# Altium footprint library Connector_Molex.PcbLib: 815 footprints (part 15 of 51)
Each footprint in its own frame and in the unit in brackets; x right, y up, seen from the top. Pads: shape width x height; smd on the part's side, far side on the other; paste and mask are expansions set on the pad; w line width, h text height; cw(c..) or ccw(c..) is an arc to the next point about the centre after c.
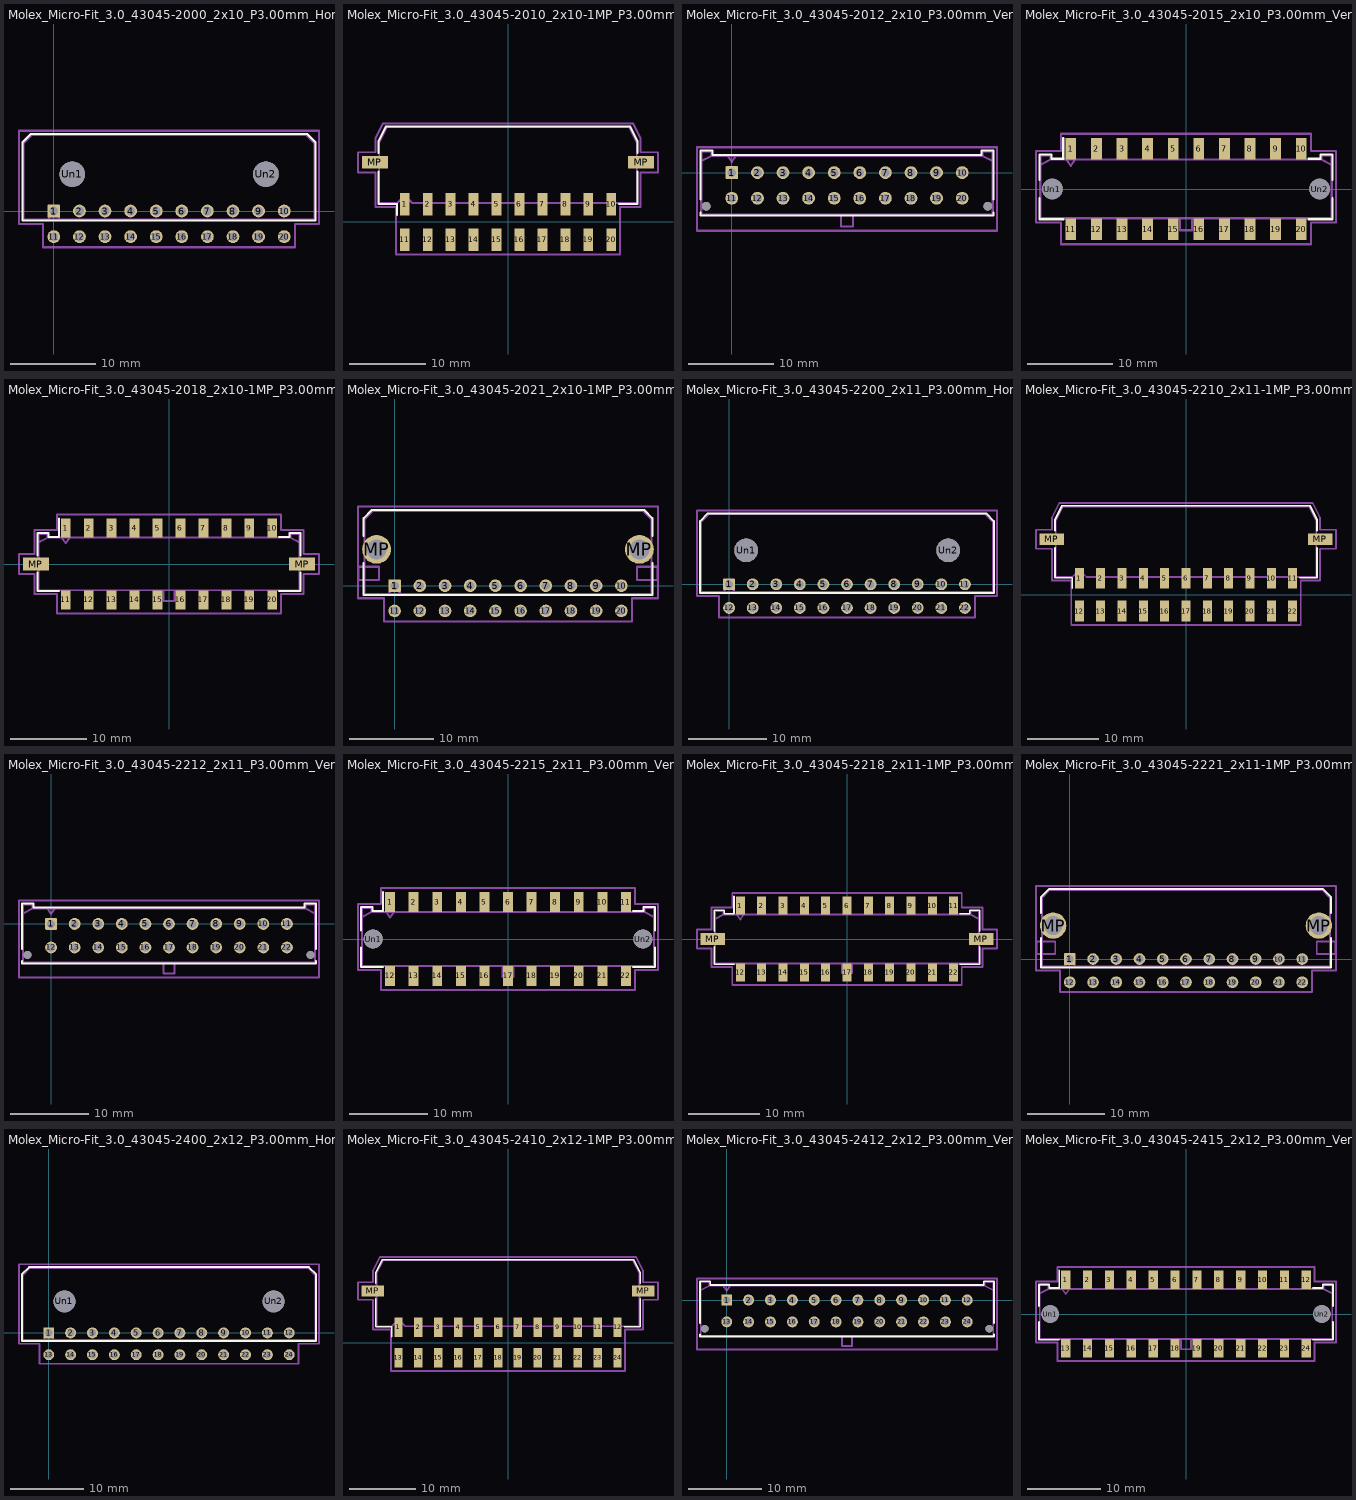
[diagram p14: the footprints below, top view; thin cyan lines are the x and y axes]

## Molex_Micro-Fit_3.0_43045-2000_2x10_P3.00mm_Horizontal [mm]
pads (22):
  rrect17% 1.5x1.5 hole 1.02: 1(0,0)
  round 1.5 hole 1.02: 2(3,0) 3(6,0) 4(9,0) 5(12,0) 6(15,0) 7(18,0) 8(21,0) 9(24,0) 10(27,0) 11(0,-3) 12(3,-3) 13(6,-3) 14(9,-3) 15(12,-3) 16(15,-3) 17(18,-3) 18(21,-3) 19(24,-3) 20(27,-3)
  round 3 hole 3: Un1(2.16,4.32) Un2(24.86,4.32)
F.SilkS:
  lines w0.254: -3.685,-1.1 30.685,-1.1 30.685,8.03 29.685,9.03 -2.685,9.03 -3.685,8.03 -3.685,-1.1
Top Assembly:
  lines w0.254: -0.75,-0.99 0,0 0.75,-0.99 ; -3.575,-0.99 30.575,-0.99 30.575,7.92 29.575,8.92 -2.575,8.92 -3.575,7.92 -3.575,-0.99
  text "'.Designator'" at 9.453,7.38 h1
Top Courtyard:
  lines w0.254: -4.08,-1.5 -1.25,-1.5 -1.25,-4.25 28.25,-4.25 28.25,-1.5 31.08,-1.5 31.08,9.42 -4.08,9.42 -4.08,-1.5
Top Designator:
  text ".Designator" at 5.882,2.077 h1.52

## Molex_Micro-Fit_3.0_43045-2010_2x10-1MP_P3.00mm_Horizontal [mm]
pads (22):
  rect 1.27x2.92 smd: 1(-13.5,2.315) 2(-10.5,2.315) 3(-7.5,2.315) 4(-4.5,2.315) 5(-1.5,2.315) 6(1.5,2.315) 7(4.5,2.315) 8(7.5,2.315) 9(10.5,2.315) 10(13.5,2.315) 11(-13.5,-2.315) 12(-10.5,-2.315) 13(-7.5,-2.315) 14(-4.5,-2.315) 15(-1.5,-2.315) 16(1.5,-2.315) 17(4.5,-2.315) 18(7.5,-2.315) 19(10.5,-2.315) 20(13.5,-2.315)
  rect 3.43x1.65 smd: MP(-17.385,7.785) MP(17.385,7.785)
F.SilkS:
  lines w0.254: -16.935,6.59 -16.935,2.365 -14.505,2.365 -14.505,0.905 ; -16.935,8.98 -16.935,10.495 -15.935,12.495 0,12.495 15.935,12.495 16.935,10.495 16.935,8.98 ; 14.505,2.365 16.935,2.365 16.935,6.59
Top Assembly:
  lines w0.254: -16.825,2.475 -14.5,2.475 -13.5,3.475 -12.5,2.475 0,2.475 14.135,2.475 16.825,2.475 16.825,8.61 16.825,10.385 15.825,12.385 0,12.385 -15.825,12.385 -16.825,10.385 -16.825,8.61 -16.825,2.475
  text "'.Designator'" at -4.047,10.84 h1
Top Courtyard:
  lines w0.254: -19.6,6.46 -17.33,6.46 -17.33,1.98 -14.64,1.98 -14.64,-4.28 0,-4.28 14.64,-4.28 14.64,1.98 17.33,1.98 17.33,6.46 19.6,6.46 19.6,9.11 17.33,9.11 17.33,10.89 16.33,12.89 0,12.89 -16.33,12.89 -17.33,10.89 -17.33,9.11 -19.6,9.11 -19.6,6.46
Top Designator:
  text ".Designator" at -7.618,3.797 h1.52

## Molex_Micro-Fit_3.0_43045-2012_2x10_P3.00mm_Vertical [mm]
pads (22):
  rrect17% 1.5x1.5 hole 1.02: 1(0,0)
  round 1.5 hole 1.02: 2(3,0) 3(6,0) 4(9,0) 5(12,0) 6(15,0) 7(18,0) 8(21,0) 9(24,0) 10(27,0) 11(0,-3) 12(3,-3) 13(6,-3) 14(9,-3) 15(12,-3) 16(15,-3) 17(18,-3) 18(21,-3) 19(24,-3) 20(27,-3)
  round 1.02 hole 1.02: Un1(-3,-3.94) Un2(30,-3.94)
F.SilkS:
  lines w0.254: -3.685,-4.71 -3.685,-5.01 30.685,-5.01 30.685,-4.71 ; -3.685,-3.17 -3.685,2.58 -2.265,2.58 -2.265,2.08 29.265,2.08 29.265,2.58 30.685,2.58 30.685,-3.17
Top Assembly:
  lines w0.254: -3.575,1.34 -2.375,1.97 ; -0.5,1.97 0,1.263 0.5,1.97 ; 12.8,-4.9 12.8,-6.3 14.2,-6.3 14.2,-4.9 ; 30.575,1.34 29.375,1.97 ; -2.375,1.97 29.375,1.97 ; -2.375,1.97 -2.375,2.47 -3.575,2.47 -3.575,-4.9 30.575,-4.9 30.575,2.47 29.375,2.47 29.375,1.97
  text "'.Designator'" at 9.453,-5.04 h1
Top Courtyard:
  lines w0.254: -4.08,-6.81 31.08,-6.81 31.08,2.97 -4.08,2.97 -4.08,-6.81
Top Designator:
  text ".Designator" at 5.882,-2.428 h1.52

## Molex_Micro-Fit_3.0_43045-2015_2x10_P3.00mm_Vertical [mm]
pads (22):
  rect 1.27x2.54 smd: 1(-13.5,4.7) 2(-10.5,4.7) 3(-7.5,4.7) 4(-4.5,4.7) 5(-1.5,4.7) 6(1.5,4.7) 7(4.5,4.7) 8(7.5,4.7) 9(10.5,4.7) 10(13.5,4.7) 11(-13.5,-4.7) 12(-10.5,-4.7) 13(-7.5,-4.7) 14(-4.5,-4.7) 15(-1.5,-4.7) 16(1.5,-4.7) 17(4.5,-4.7) 18(7.5,-4.7) 19(10.5,-4.7) 20(13.5,-4.7)
  round 2.41 hole 2.41: Un1(-15.65,0) Un2(15.65,0)
F.SilkS:
  lines w0.254: -17.185,-1.085 -17.185,-3.54 -14.395,-3.54 ; -17.185,1.085 -17.185,4.05 -15.765,4.05 -15.765,3.55 -14.395,3.55 -14.395,5.97 ; 14.395,-3.54 17.185,-3.54 17.185,-1.085 ; 14.395,3.55 15.765,3.55 15.765,4.05 17.185,4.05 17.185,1.085
Top Assembly:
  lines w0.254: -17.075,2.81 -15.875,3.44 ; -14,3.44 -13.5,2.733 -13,3.44 ; -0.7,-3.43 -0.7,-4.83 0.7,-4.83 0.7,-3.43 ; 17.075,2.81 15.875,3.44 ; -15.875,3.44 15.875,3.44 ; -15.875,3.44 -15.875,3.94 -17.075,3.94 -17.075,-3.43 17.075,-3.43 17.075,3.94 15.875,3.94 15.875,3.44
  text "'.Designator'" at -4.047,-3.57 h1
Top Courtyard:
  lines w0.254: -17.58,-3.93 -14.64,-3.93 -14.64,-6.47 0,-6.47 14.64,-6.47 14.64,-3.93 17.58,-3.93 17.58,4.44 14.64,4.44 14.64,6.47 0,6.47 -14.64,6.47 -14.64,4.44 -17.58,4.44 -17.58,-3.93
Top Designator:
  text ".Designator" at -7.618,-0.508 h1.52

## Molex_Micro-Fit_3.0_43045-2018_2x10-1MP_P3.00mm_Vertical [mm]
pads (22):
  rect 1.27x2.54 smd: 1(-13.5,4.7) 2(-10.5,4.7) 3(-7.5,4.7) 4(-4.5,4.7) 5(-1.5,4.7) 6(1.5,4.7) 7(4.5,4.7) 8(7.5,4.7) 9(10.5,4.7) 10(13.5,4.7) 11(-13.5,-4.7) 12(-10.5,-4.7) 13(-7.5,-4.7) 14(-4.5,-4.7) 15(-1.5,-4.7) 16(1.5,-4.7) 17(4.5,-4.7) 18(7.5,-4.7) 19(10.5,-4.7) 20(13.5,-4.7)
  rect 3.43x1.65 smd: MP(-17.385,0) MP(17.385,0)
F.SilkS:
  lines w0.254: -17.185,-1.085 -17.185,-3.54 -14.395,-3.54 ; -17.185,1.085 -17.185,4.05 -15.765,4.05 -15.765,3.55 -14.395,3.55 -14.395,5.97 ; 14.395,-3.54 17.185,-3.54 17.185,-1.085 ; 14.395,3.55 15.765,3.55 15.765,4.05 17.185,4.05 17.185,1.085
Top Assembly:
  lines w0.254: -17.075,2.81 -15.875,3.44 ; -14,3.44 -13.5,2.733 -13,3.44 ; -0.7,-3.43 -0.7,-4.83 0.7,-4.83 0.7,-3.43 ; 17.075,2.81 15.875,3.44 ; -15.875,3.44 15.875,3.44 ; -15.875,3.44 -15.875,3.94 -17.075,3.94 -17.075,-3.43 17.075,-3.43 17.075,3.94 15.875,3.94 15.875,3.44
  text "'.Designator'" at -4.047,-3.57 h1
Top Courtyard:
  lines w0.254: -19.6,-1.33 -17.58,-1.33 -17.58,-3.93 -14.64,-3.93 -14.64,-6.47 0,-6.47 14.64,-6.47 14.64,-3.93 17.58,-3.93 17.58,-1.33 19.6,-1.33 19.6,1.33 17.58,1.33 17.58,4.44 14.64,4.44 14.64,6.47 0,6.47 -14.64,6.47 -14.64,4.44 -17.58,4.44 -17.58,1.33 -19.6,1.33 -19.6,-1.33
Top Designator:
  text ".Designator" at -7.618,-0.508 h1.52

## Molex_Micro-Fit_3.0_43045-2021_2x10-1MP_P3.00mm_Horizontal [mm]
pads (22):
  rrect17% 1.5x1.5 hole 1.02: 1(0,0)
  round 1.5 hole 1.02: 2(3,0) 3(6,0) 4(9,0) 5(12,0) 6(15,0) 7(18,0) 8(21,0) 9(24,0) 10(27,0) 11(0,-3) 12(3,-3) 13(6,-3) 14(9,-3) 15(12,-3) 16(15,-3) 17(18,-3) 18(21,-3) 19(24,-3) 20(27,-3)
  round 3.41 hole 2.41: MP(-2.15,4.32) MP(29.15,4.32)
F.SilkS:
  lines w0.254: -3.685,2.725 -3.685,-1.1 30.685,-1.1 30.685,2.725 ; -3.685,5.915 -3.685,8.03 -2.685,9.03 29.685,9.03 30.685,8.03 30.685,5.915
Top Assembly:
  lines w0.254: -0.75,-0.99 0,0 0.75,-0.99 ; -3.575,-0.99 30.575,-0.99 30.575,7.92 29.575,8.92 -2.575,8.92 -3.575,7.92 -3.575,-0.99
  text "'.Designator'" at 9.453,7.38 h1
Top Courtyard:
  lines w0.254: -4.36,-1.5 -1.25,-1.5 -1.25,-4.25 28.25,-4.25 28.25,-1.5 31.36,-1.5 31.36,9.42 -4.36,9.42 -4.36,-1.5
Top Designator:
  text ".Designator" at 5.882,2.077 h1.52
Dwgs.User:
  lines w0.254: -4.325,0.66 -1.875,0.66 -1.875,2.26 -4.325,2.26 -4.325,0.66 ; 28.875,0.66 31.325,0.66 31.325,2.26 28.875,2.26 28.875,0.66
Cmts.User:
  text "CU KEEPOUT" at 29,1.301 h0.25
  text "CU KEEPOUT" at -4.2,1.301 h0.25

## Molex_Micro-Fit_3.0_43045-2200_2x11_P3.00mm_Horizontal [mm]
pads (24):
  rrect17% 1.5x1.5 hole 1.02: 1(0,0)
  round 1.5 hole 1.02: 2(3,0) 3(6,0) 4(9,0) 5(12,0) 6(15,0) 7(18,0) 8(21,0) 9(24,0) 10(27,0) 11(30,0) 12(0,-3) 13(3,-3) 14(6,-3) 15(9,-3) 16(12,-3) 17(15,-3) 18(18,-3) 19(21,-3) 20(24,-3) 21(27,-3) 22(30,-3)
  round 3 hole 3: Un1(2.16,4.32) Un2(27.86,4.32)
F.SilkS:
  lines w0.254: -3.685,-1.1 33.685,-1.1 33.685,8.03 32.685,9.03 -2.685,9.03 -3.685,8.03 -3.685,-1.1
Top Assembly:
  lines w0.254: -0.75,-0.99 0,0 0.75,-0.99 ; -3.575,-0.99 33.575,-0.99 33.575,7.92 32.575,8.92 -2.575,8.92 -3.575,7.92 -3.575,-0.99
  text "'.Designator'" at 10.953,7.38 h1
Top Courtyard:
  lines w0.254: -4.08,-1.5 -1.25,-1.5 -1.25,-4.25 31.25,-4.25 31.25,-1.5 34.08,-1.5 34.08,9.42 -4.08,9.42 -4.08,-1.5
Top Designator:
  text ".Designator" at 7.382,2.077 h1.52

## Molex_Micro-Fit_3.0_43045-2210_2x11-1MP_P3.00mm_Horizontal [mm]
pads (24):
  rect 1.27x2.92 smd: 1(-15,2.315) 2(-12,2.315) 3(-9,2.315) 4(-6,2.315) 5(-3,2.315) 6(0,2.315) 7(3,2.315) 8(6,2.315) 9(9,2.315) 10(12,2.315) 11(15,2.315) 12(-15,-2.315) 13(-12,-2.315) 14(-9,-2.315) 15(-6,-2.315) 16(-3,-2.315) 17(0,-2.315) 18(3,-2.315) 19(6,-2.315) 20(9,-2.315) 21(12,-2.315) 22(15,-2.315)
  rect 3.43x1.65 smd: MP(-18.885,7.785) MP(18.885,7.785)
F.SilkS:
  lines w0.254: -18.435,6.59 -18.435,2.365 -16.005,2.365 -16.005,0.905 ; -18.435,8.98 -18.435,10.495 -17.435,12.495 0,12.495 17.435,12.495 18.435,10.495 18.435,8.98 ; 16.005,2.365 18.435,2.365 18.435,6.59
Top Assembly:
  lines w0.254: -18.325,2.475 -16,2.475 -15,3.475 -14,2.475 0,2.475 15.635,2.475 18.325,2.475 18.325,8.61 18.325,10.385 17.325,12.385 0,12.385 -17.325,12.385 -18.325,10.385 -18.325,8.61 -18.325,2.475
  text "'.Designator'" at -4.047,10.84 h1
Top Courtyard:
  lines w0.254: -21.1,6.46 -18.83,6.46 -18.83,1.98 -16.14,1.98 -16.14,-4.28 0,-4.28 16.14,-4.28 16.14,1.98 18.83,1.98 18.83,6.46 21.1,6.46 21.1,9.11 18.83,9.11 18.83,10.89 17.83,12.89 0,12.89 -17.83,12.89 -18.83,10.89 -18.83,9.11 -21.1,9.11 -21.1,6.46
Top Designator:
  text ".Designator" at -7.618,3.797 h1.52

## Molex_Micro-Fit_3.0_43045-2212_2x11_P3.00mm_Vertical [mm]
pads (24):
  rrect17% 1.5x1.5 hole 1.02: 1(0,0)
  round 1.5 hole 1.02: 2(3,0) 3(6,0) 4(9,0) 5(12,0) 6(15,0) 7(18,0) 8(21,0) 9(24,0) 10(27,0) 11(30,0) 12(0,-3) 13(3,-3) 14(6,-3) 15(9,-3) 16(12,-3) 17(15,-3) 18(18,-3) 19(21,-3) 20(24,-3) 21(27,-3) 22(30,-3)
  round 1.02 hole 1.02: Un1(-3,-3.94) Un2(33,-3.94)
F.SilkS:
  lines w0.254: -3.685,-4.71 -3.685,-5.01 33.685,-5.01 33.685,-4.71 ; -3.685,-3.17 -3.685,2.58 -2.265,2.58 -2.265,2.08 32.265,2.08 32.265,2.58 33.685,2.58 33.685,-3.17
Top Assembly:
  lines w0.254: -3.575,1.34 -2.375,1.97 ; -0.5,1.97 0,1.263 0.5,1.97 ; 14.3,-4.9 14.3,-6.3 15.7,-6.3 15.7,-4.9 ; 33.575,1.34 32.375,1.97 ; -2.375,1.97 32.375,1.97 ; -2.375,1.97 -2.375,2.47 -3.575,2.47 -3.575,-4.9 33.575,-4.9 33.575,2.47 32.375,2.47 32.375,1.97
  text "'.Designator'" at 10.953,-5.04 h1
Top Courtyard:
  lines w0.254: -4.08,-6.81 34.08,-6.81 34.08,2.97 -4.08,2.97 -4.08,-6.81
Top Designator:
  text ".Designator" at 7.382,-2.428 h1.52

## Molex_Micro-Fit_3.0_43045-2215_2x11_P3.00mm_Vertical [mm]
pads (24):
  rect 1.27x2.54 smd: 1(-15,4.7) 2(-12,4.7) 3(-9,4.7) 4(-6,4.7) 5(-3,4.7) 6(0,4.7) 7(3,4.7) 8(6,4.7) 9(9,4.7) 10(12,4.7) 11(15,4.7) 12(-15,-4.7) 13(-12,-4.7) 14(-9,-4.7) 15(-6,-4.7) 16(-3,-4.7) 17(0,-4.7) 18(3,-4.7) 19(6,-4.7) 20(9,-4.7) 21(12,-4.7) 22(15,-4.7)
  round 2.41 hole 2.41: Un1(-17.15,0) Un2(17.15,0)
F.SilkS:
  lines w0.254: -18.685,-1.085 -18.685,-3.54 -15.895,-3.54 ; -18.685,1.085 -18.685,4.05 -17.265,4.05 -17.265,3.55 -15.895,3.55 -15.895,5.97 ; 15.895,-3.54 18.685,-3.54 18.685,-1.085 ; 15.895,3.55 17.265,3.55 17.265,4.05 18.685,4.05 18.685,1.085
Top Assembly:
  lines w0.254: -18.575,2.81 -17.375,3.44 ; -15.5,3.44 -15,2.733 -14.5,3.44 ; -0.7,-3.43 -0.7,-4.83 0.7,-4.83 0.7,-3.43 ; 18.575,2.81 17.375,3.44 ; -17.375,3.44 17.375,3.44 ; -17.375,3.44 -17.375,3.94 -18.575,3.94 -18.575,-3.43 18.575,-3.43 18.575,3.94 17.375,3.94 17.375,3.44
  text "'.Designator'" at -4.047,-3.57 h1
Top Courtyard:
  lines w0.254: -19.08,-3.93 -16.14,-3.93 -16.14,-6.47 0,-6.47 16.14,-6.47 16.14,-3.93 19.08,-3.93 19.08,4.44 16.14,4.44 16.14,6.47 0,6.47 -16.14,6.47 -16.14,4.44 -19.08,4.44 -19.08,-3.93
Top Designator:
  text ".Designator" at -7.618,-0.508 h1.52

## Molex_Micro-Fit_3.0_43045-2218_2x11-1MP_P3.00mm_Vertical [mm]
pads (24):
  rect 1.27x2.54 smd: 1(-15,4.7) 2(-12,4.7) 3(-9,4.7) 4(-6,4.7) 5(-3,4.7) 6(0,4.7) 7(3,4.7) 8(6,4.7) 9(9,4.7) 10(12,4.7) 11(15,4.7) 12(-15,-4.7) 13(-12,-4.7) 14(-9,-4.7) 15(-6,-4.7) 16(-3,-4.7) 17(0,-4.7) 18(3,-4.7) 19(6,-4.7) 20(9,-4.7) 21(12,-4.7) 22(15,-4.7)
  rect 3.43x1.65 smd: MP(-18.885,0) MP(18.885,0)
F.SilkS:
  lines w0.254: -18.685,-1.085 -18.685,-3.54 -15.895,-3.54 ; -18.685,1.085 -18.685,4.05 -17.265,4.05 -17.265,3.55 -15.895,3.55 -15.895,5.97 ; 15.895,-3.54 18.685,-3.54 18.685,-1.085 ; 15.895,3.55 17.265,3.55 17.265,4.05 18.685,4.05 18.685,1.085
Top Assembly:
  lines w0.254: -18.575,2.81 -17.375,3.44 ; -15.5,3.44 -15,2.733 -14.5,3.44 ; -0.7,-3.43 -0.7,-4.83 0.7,-4.83 0.7,-3.43 ; 18.575,2.81 17.375,3.44 ; -17.375,3.44 17.375,3.44 ; -17.375,3.44 -17.375,3.94 -18.575,3.94 -18.575,-3.43 18.575,-3.43 18.575,3.94 17.375,3.94 17.375,3.44
  text "'.Designator'" at -4.047,-3.57 h1
Top Courtyard:
  lines w0.254: -21.1,-1.33 -19.08,-1.33 -19.08,-3.93 -16.14,-3.93 -16.14,-6.47 0,-6.47 16.14,-6.47 16.14,-3.93 19.08,-3.93 19.08,-1.33 21.1,-1.33 21.1,1.33 19.08,1.33 19.08,4.44 16.14,4.44 16.14,6.47 0,6.47 -16.14,6.47 -16.14,4.44 -19.08,4.44 -19.08,1.33 -21.1,1.33 -21.1,-1.33
Top Designator:
  text ".Designator" at -7.618,-0.508 h1.52

## Molex_Micro-Fit_3.0_43045-2221_2x11-1MP_P3.00mm_Horizontal [mm]
pads (24):
  rrect17% 1.5x1.5 hole 1.02: 1(0,0)
  round 1.5 hole 1.02: 2(3,0) 3(6,0) 4(9,0) 5(12,0) 6(15,0) 7(18,0) 8(21,0) 9(24,0) 10(27,0) 11(30,0) 12(0,-3) 13(3,-3) 14(6,-3) 15(9,-3) 16(12,-3) 17(15,-3) 18(18,-3) 19(21,-3) 20(24,-3) 21(27,-3) 22(30,-3)
  round 3.41 hole 2.41: MP(-2.15,4.32) MP(32.15,4.32)
F.SilkS:
  lines w0.254: -3.685,2.725 -3.685,-1.1 33.685,-1.1 33.685,2.725 ; -3.685,5.915 -3.685,8.03 -2.685,9.03 32.685,9.03 33.685,8.03 33.685,5.915
Top Assembly:
  lines w0.254: -0.75,-0.99 0,0 0.75,-0.99 ; -3.575,-0.99 33.575,-0.99 33.575,7.92 32.575,8.92 -2.575,8.92 -3.575,7.92 -3.575,-0.99
  text "'.Designator'" at 10.953,7.38 h1
Top Courtyard:
  lines w0.254: -4.36,-1.5 -1.25,-1.5 -1.25,-4.25 31.25,-4.25 31.25,-1.5 34.36,-1.5 34.36,9.42 -4.36,9.42 -4.36,-1.5
Top Designator:
  text ".Designator" at 7.382,2.077 h1.52
Dwgs.User:
  lines w0.254: -4.325,0.66 -1.875,0.66 -1.875,2.26 -4.325,2.26 -4.325,0.66 ; 31.875,0.66 34.325,0.66 34.325,2.26 31.875,2.26 31.875,0.66
Cmts.User:
  text "CU KEEPOUT" at 32,1.301 h0.25
  text "CU KEEPOUT" at -4.2,1.301 h0.25

## Molex_Micro-Fit_3.0_43045-2400_2x12_P3.00mm_Horizontal [mm]
pads (26):
  rrect17% 1.5x1.5 hole 1.02: 1(0,0)
  round 1.5 hole 1.02: 2(3,0) 3(6,0) 4(9,0) 5(12,0) 6(15,0) 7(18,0) 8(21,0) 9(24,0) 10(27,0) 11(30,0) 12(33,0) 13(0,-3) 14(3,-3) 15(6,-3) 16(9,-3) 17(12,-3) 18(15,-3) 19(18,-3) 20(21,-3) 21(24,-3) 22(27,-3) 23(30,-3) 24(33,-3)
  round 3 hole 3: Un1(2.16,4.32) Un2(30.86,4.32)
F.SilkS:
  lines w0.254: -3.685,-1.1 36.685,-1.1 36.685,8.03 35.685,9.03 -2.685,9.03 -3.685,8.03 -3.685,-1.1
Top Assembly:
  lines w0.254: -0.75,-0.99 0,0 0.75,-0.99 ; -3.575,-0.99 36.575,-0.99 36.575,7.92 35.575,8.92 -2.575,8.92 -3.575,7.92 -3.575,-0.99
  text "'.Designator'" at 12.453,7.38 h1
Top Courtyard:
  lines w0.254: -4.08,-1.5 -1.25,-1.5 -1.25,-4.25 34.25,-4.25 34.25,-1.5 37.08,-1.5 37.08,9.42 -4.08,9.42 -4.08,-1.5
Top Designator:
  text ".Designator" at 8.882,2.077 h1.52

## Molex_Micro-Fit_3.0_43045-2410_2x12-1MP_P3.00mm_Horizontal [mm]
pads (26):
  rect 1.27x2.92 smd: 1(-16.5,2.315) 2(-13.5,2.315) 3(-10.5,2.315) 4(-7.5,2.315) 5(-4.5,2.315) 6(-1.5,2.315) 7(1.5,2.315) 8(4.5,2.315) 9(7.5,2.315) 10(10.5,2.315) 11(13.5,2.315) 12(16.5,2.315) 13(-16.5,-2.315) 14(-13.5,-2.315) 15(-10.5,-2.315) 16(-7.5,-2.315) 17(-4.5,-2.315) 18(-1.5,-2.315) 19(1.5,-2.315) 20(4.5,-2.315) 21(7.5,-2.315) 22(10.5,-2.315) 23(13.5,-2.315) 24(16.5,-2.315)
  rect 3.43x1.65 smd: MP(-20.385,7.785) MP(20.385,7.785)
F.SilkS:
  lines w0.254: -19.935,6.59 -19.935,2.365 -17.505,2.365 -17.505,0.905 ; -19.935,8.98 -19.935,10.495 -18.935,12.495 0,12.495 18.935,12.495 19.935,10.495 19.935,8.98 ; 17.505,2.365 19.935,2.365 19.935,6.59
Top Assembly:
  lines w0.254: -19.825,2.475 -17.5,2.475 -16.5,3.475 -15.5,2.475 0,2.475 17.135,2.475 19.825,2.475 19.825,8.61 19.825,10.385 18.825,12.385 0,12.385 -18.825,12.385 -19.825,10.385 -19.825,8.61 -19.825,2.475
  text "'.Designator'" at -4.047,10.84 h1
Top Courtyard:
  lines w0.254: -22.6,6.46 -20.33,6.46 -20.33,1.98 -17.64,1.98 -17.64,-4.28 0,-4.28 17.64,-4.28 17.64,1.98 20.33,1.98 20.33,6.46 22.6,6.46 22.6,9.11 20.33,9.11 20.33,10.89 19.33,12.89 0,12.89 -19.33,12.89 -20.33,10.89 -20.33,9.11 -22.6,9.11 -22.6,6.46
Top Designator:
  text ".Designator" at -7.618,3.797 h1.52

## Molex_Micro-Fit_3.0_43045-2412_2x12_P3.00mm_Vertical [mm]
pads (26):
  rrect17% 1.5x1.5 hole 1.02: 1(0,0)
  round 1.5 hole 1.02: 2(3,0) 3(6,0) 4(9,0) 5(12,0) 6(15,0) 7(18,0) 8(21,0) 9(24,0) 10(27,0) 11(30,0) 12(33,0) 13(0,-3) 14(3,-3) 15(6,-3) 16(9,-3) 17(12,-3) 18(15,-3) 19(18,-3) 20(21,-3) 21(24,-3) 22(27,-3) 23(30,-3) 24(33,-3)
  round 1.02 hole 1.02: Un1(-3,-3.94) Un2(36,-3.94)
F.SilkS:
  lines w0.254: -3.685,-4.71 -3.685,-5.01 36.685,-5.01 36.685,-4.71 ; -3.685,-3.17 -3.685,2.58 -2.265,2.58 -2.265,2.08 35.265,2.08 35.265,2.58 36.685,2.58 36.685,-3.17
Top Assembly:
  lines w0.254: -3.575,1.34 -2.375,1.97 ; -0.5,1.97 0,1.263 0.5,1.97 ; 15.8,-4.9 15.8,-6.3 17.2,-6.3 17.2,-4.9 ; 36.575,1.34 35.375,1.97 ; -2.375,1.97 35.375,1.97 ; -2.375,1.97 -2.375,2.47 -3.575,2.47 -3.575,-4.9 36.575,-4.9 36.575,2.47 35.375,2.47 35.375,1.97
  text "'.Designator'" at 12.453,-5.04 h1
Top Courtyard:
  lines w0.254: -4.08,-6.81 37.08,-6.81 37.08,2.97 -4.08,2.97 -4.08,-6.81
Top Designator:
  text ".Designator" at 8.882,-2.428 h1.52

## Molex_Micro-Fit_3.0_43045-2415_2x12_P3.00mm_Vertical [mm]
pads (26):
  rect 1.27x2.54 smd: 1(-16.5,4.7) 2(-13.5,4.7) 3(-10.5,4.7) 4(-7.5,4.7) 5(-4.5,4.7) 6(-1.5,4.7) 7(1.5,4.7) 8(4.5,4.7) 9(7.5,4.7) 10(10.5,4.7) 11(13.5,4.7) 12(16.5,4.7) 13(-16.5,-4.7) 14(-13.5,-4.7) 15(-10.5,-4.7) 16(-7.5,-4.7) 17(-4.5,-4.7) 18(-1.5,-4.7) 19(1.5,-4.7) 20(4.5,-4.7) 21(7.5,-4.7) 22(10.5,-4.7) 23(13.5,-4.7) 24(16.5,-4.7)
  round 2.41 hole 2.41: Un1(-18.65,0) Un2(18.65,0)
F.SilkS:
  lines w0.254: -20.185,-1.085 -20.185,-3.54 -17.395,-3.54 ; -20.185,1.085 -20.185,4.05 -18.765,4.05 -18.765,3.55 -17.395,3.55 -17.395,5.97 ; 17.395,-3.54 20.185,-3.54 20.185,-1.085 ; 17.395,3.55 18.765,3.55 18.765,4.05 20.185,4.05 20.185,1.085
Top Assembly:
  lines w0.254: -20.075,2.81 -18.875,3.44 ; -17,3.44 -16.5,2.733 -16,3.44 ; -0.7,-3.43 -0.7,-4.83 0.7,-4.83 0.7,-3.43 ; 20.075,2.81 18.875,3.44 ; -18.875,3.44 18.875,3.44 ; -18.875,3.44 -18.875,3.94 -20.075,3.94 -20.075,-3.43 20.075,-3.43 20.075,3.94 18.875,3.94 18.875,3.44
  text "'.Designator'" at -4.047,-3.57 h1
Top Courtyard:
  lines w0.254: -20.58,-3.93 -17.64,-3.93 -17.64,-6.47 0,-6.47 17.64,-6.47 17.64,-3.93 20.58,-3.93 20.58,4.44 17.64,4.44 17.64,6.47 0,6.47 -17.64,6.47 -17.64,4.44 -20.58,4.44 -20.58,-3.93
Top Designator:
  text ".Designator" at -7.618,-0.508 h1.52